# Altium integrated library Panasonic Resistor.IntLib: 95 symbols (part 2 of 2)
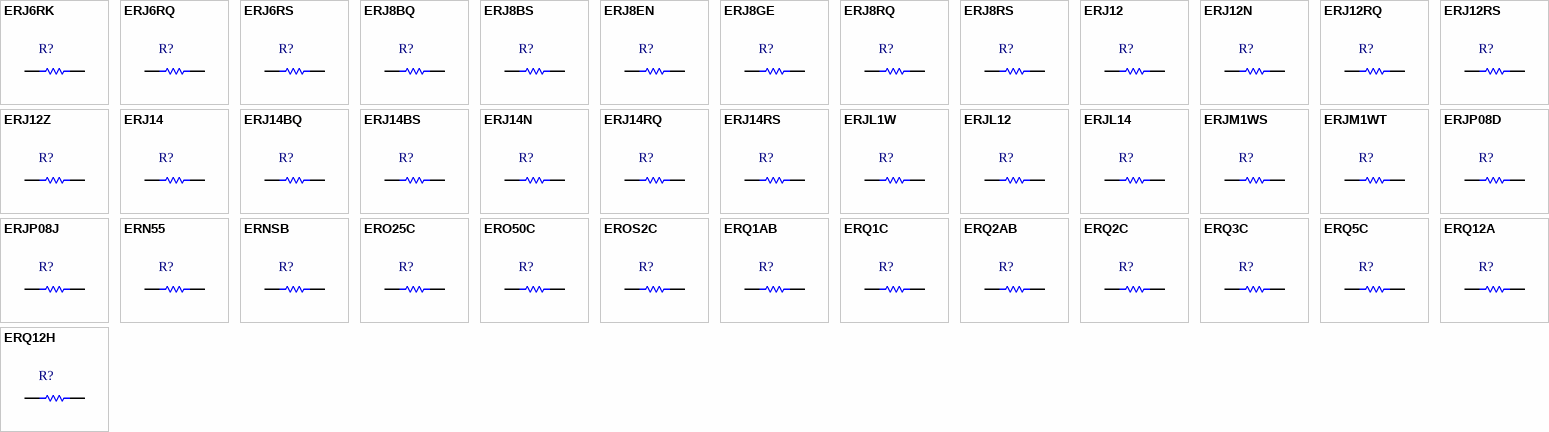
[diagram p3: symbols ERJ6RK to ERQ12H]

## ERN55
designator R?
Precision Metal Film Resistor, 49.9 Ohm to 301k Ohm Range, 0.1% to 1% Tolerance, 0.25 W; Published: 17-Dec-2003; PackageReference: R6.3x2.3; Publisher: Altium Limited; ComponentLink1Description: Manufacturer Link; ComponentLink1URL: http://www.panasonic.com/industrial/components/resistive_products.htm; ComponentLink2Description: Datasheet; ComponentLink2URL: http://www.panasonic.com/industrial/components/pdf/AOA0000CE15.pdf; ComponentLink3Description: Discontinuation Notice; ComponentLink3URL: http://www.panasonic.com/industrial/components/pdf/dc094.pdf
footprint R6.3x2.3 (Resistor, Axial; Body 6.8 x 2.8 mm (LxDia. max), Lead Dia. 0.65 mm (max))
simulation model RESISTOR (Resistor)
signal-integrity model Res
pins: 1, 2

## ERNSB
designator R?
Precision Metal Film Resistor, High Stability, 100 Ohm to 150k Ohm Range, 0.1% to 1% Tolerance, 0.25 W; Published: 17-Dec-2003; PackageReference: R6.3x2.5; Publisher: Altium Limited; ComponentLink1Description: Manufacturer Link; ComponentLink1URL: http://www.panasonic.com/industrial/components/resistive_products.htm; ComponentLink2Description: Datasheet; ComponentLink2URL: http://www.panasonic.com/industrial/components/pdf/AOA0000CE16.pdf; ComponentLink3Description: Discontinuation Notice; ComponentLink3URL: http://www.panasonic.com/industrial/components/pdf/dc094.pdf
footprint R6.3x2.5 (Resistor, Axial; Body 6.8 x 2.7 mm (LxDia. max), Lead Dia. 0.65 mm (max))
simulation model RESISTOR (Resistor)
signal-integrity model Res
pins: 1, 2

## ERO25C
designator R?
Metal Film Resistor, 2 Ohm to 1M Ohm Range, 0.5% and 1% Tolerance, 0.25 W; Published: 17-Dec-2003; PackageReference: R6.3x2.3; Publisher: Altium Limited; ComponentLink1Description: Manufacturer Link; ComponentLink1URL: http://www.panasonic.com/industrial/components/resistive_products.htm; ComponentLink2Description: Discontinuation Notice; ComponentLink2URL: http://www.panasonic.com/industrial/components/pdf/dc050.pdf
footprint R6.3x2.3 (Resistor, Axial; Body 6.8 x 2.8 mm (LxDia. max), Lead Dia. 0.65 mm (max))
simulation model RESISTOR (Resistor)
signal-integrity model Res
pins: 1, 2

## ERO50C
designator R?
Metal Film Resistor, 20 Ohm to 1M Ohm Range, 0.5% and 1% Tolerance, 0.5 W; Published: 17-Dec-2003; PackageReference: R9.5x3.5; Publisher: Altium Limited; ComponentLink1Description: Manufacturer Link; ComponentLink1URL: http://www.panasonic.com/industrial/components/resistive_products.htm; ComponentLink2Description: Datasheet; ComponentLink2URL: http://www.panasonic.com/industrial/components/pdf/AOA0000CE14.pdf; ComponentLink3Description: Discontinuation Notice; ComponentLink3URL: http://www.panasonic.com/industrial/components/pdf/dc050.pdf
footprint R9.5x3.5 (Resistor, Axial; Body 10 x 4 mm (LxDia. max), Lead Dia. 0.65 mm (max))
simulation model RESISTOR (Resistor)
signal-integrity model Res
pins: 1, 2

## EROS2C
designator R?
Metal Film Resistor, 2 Ohm to 1M Ohm Range, 0.5% and 1% Tolerance, 0.25 W; Published: 17-Dec-2003; PackageReference: RO3.2x1.7; Publisher: Altium Limited; ComponentLink1Description: Manufacturer Link; ComponentLink1URL: http://www.panasonic.com/industrial/components/resistive_products.htm; ComponentLink2Description: Datasheet; ComponentLink2URL: http://www.panasonic.com/industrial/components/pdf/AOA0000CE14.pdf; ComponentLink3Description: Discontinuation Notice; ComponentLink3URL: http://www.panasonic.com/industrial/components/pdf/dc050.pdf
footprint RO3.2x1.7 (Resistor, Axial; Body 3.4 x 1.9 mm (LxDia. max), Lead Dia. 0.5 mm (max))
simulation model RESISTOR (Resistor)
signal-integrity model Res
pins: 1, 2

## ERQ1AB
designator R?
Metal Film Fuse Resistor, 1 Ohm to 560 Ohm Range, 5% Tolerance, 1 W; Published: 17-Dec-2003; PackageReference: R12x4; Publisher: Altium Limited; ComponentLink1Description: Manufacturer Link; ComponentLink1URL: http://www.panasonic.com/industrial/components/resistive_products.htm; ComponentLink2Description: Datasheet; ComponentLink2URL: http://www.panasonic.com/industrial/components/pdf/AOB0000CE3.pdf
footprint R12x4 (Resistor, Axial; Body 13.5 x 5 mm (LxDia. max), Lead Dia. 0.85 mm (max))
simulation model RESISTOR (Resistor)
signal-integrity model Res
pins: 1, 2

## ERQ1C
designator R?
Metal (Oxide) Film Fuse Resistor, Axial Leads, 0.33 Ohm to 1k Ohm Range, 5% and 10% Tolerance, 1 W; Published: 17-Dec-2003; PackageReference: R13x5.5; Publisher: Altium Limited; ComponentLink1Description: Manufacturer Link; ComponentLink1URL: http://www.panasonic.com/industrial/components/resistive_products.htm; ComponentLink2Description: Datasheet; ComponentLink2URL: http://www.panasonic.com/industrial/components/pdf/AOB0000CE2.pdf
footprint R13x5.5 (Resistor, Axial; Body 14 x 6.5 x 6.5mm (LxWxH max), Lead Dia. 0.7 mm (max))
simulation model RESISTOR (Resistor)
signal-integrity model Res
pins: 1, 2

## ERQ2AB
designator R?
Metal Film Fuse Resistor, 1 Ohm to 560 Ohm Range, 5% Tolerance, 2 W; Published: 17-Dec-2003; PackageReference: R15x5.5; Publisher: Altium Limited; ComponentLink1Description: Manufacturer Link; ComponentLink1URL: http://www.panasonic.com/industrial/components/resistive_products.htm; ComponentLink2Description: Datasheet; ComponentLink2URL: http://www.panasonic.com/industrial/components/pdf/AOB0000CE3.pdf
footprint R15x5.5 (Resistor, Axial; Body 16.5 x 6.5 mm (LxDia. max), Lead Dia. 0.85 mm (max))
simulation model RESISTOR (Resistor)
signal-integrity model Res
pins: 1, 2

## ERQ2C
designator R?
Metal (Oxide) Film Fuse Resistor, Axial Leads, 0.33 Ohm to 1k Ohm Range, 5% and 10% Tolerance, 2 W; Published: 17-Dec-2003; PackageReference: R18x6.4; Publisher: Altium Limited; ComponentLink1Description: Manufacturer Link; ComponentLink1URL: http://www.panasonic.com/industrial/components/resistive_products.htm; ComponentLink2Description: Datasheet; ComponentLink2URL: http://www.panasonic.com/industrial/components/pdf/AOB0000CE2.pdf
footprint R18x6.4 (Resistor, Axial; Body 19 x 7.4 x 7.4mm (LxWxH max), Lead Dia. 0.85 mm (max))
simulation model RESISTOR (Resistor)
signal-integrity model Res
pins: 1, 2

## ERQ3C
designator R?
Metal (Oxide) Film Fuse Resistor, Axial Leads, 0.33 Ohm to 3.3k Ohm Range, 5% and 10% Tolerance, 3 W; Published: 17-Dec-2003; PackageReference: R22x9.5; Publisher: Altium Limited; ComponentLink1Description: Manufacturer Link; ComponentLink1URL: http://www.panasonic.com/industrial/components/resistive_products.htm; ComponentLink2Description: Datasheet; ComponentLink2URL: http://www.panasonic.com/industrial/components/pdf/AOB0000CE2.pdf
footprint R22x9.5 (Resistor, Axial; Body 23 x 10.5 x 10.5mm (LxWxH max), Lead Dia. 0.85 mm (max))
simulation model RESISTOR (Resistor)
signal-integrity model Res
pins: 1, 2

## ERQ5C
designator R?
Metal (Oxide) Film Fuse Resistor, Axial Leads, 100 Ohm to 3.3k Ohm Range, 5% and 10% Tolerance, 5 W; Published: 17-Dec-2003; PackageReference: R35x9.5; Publisher: Altium Limited; ComponentLink1Description: Manufacturer Link; ComponentLink1URL: http://www.panasonic.com/industrial/components/resistive_products.htm; ComponentLink2Description: Datasheet; ComponentLink2URL: http://www.panasonic.com/industrial/components/pdf/AOB0000CE2.pdf
footprint R35x9.5 (Resistor, Axial; Body 36.5 x 10.5 x 10.5mm (LxWxH max), Lead Dia. 0.85 mm (max))
simulation model RESISTOR (Resistor)
signal-integrity model Res
pins: 1, 2

## ERQ12A
designator R?
Metal Film Fuse Resistor, 1 Ohm to 560 Ohm Range, 5% Tolerance, 0.5 W; Published: 17-Dec-2003; PackageReference: R9x2.8; Publisher: Altium Limited; ComponentLink1Description: Manufacturer Link; ComponentLink1URL: http://www.panasonic.com/industrial/components/resistive_products.htm; ComponentLink2Description: Datasheet; ComponentLink2URL: http://www.panasonic.com/industrial/components/pdf/AOB0000CE3.pdf
footprint R9x2.8 (Resistor, Axial; Body 10.5 x 3.3 mm (LxDia. max), Lead Dia. 0.7 mm (max))
simulation model RESISTOR (Resistor)
signal-integrity model Res
pins: 1, 2

## ERQ12H
designator R?
Metal (Oxide) Film Fuse Resistor, 0.22 Ohm to 3.9k Ohm Range, 5% and 10% Tolerance, 0.5 W; Published: 17-Dec-2003; PackageReference: R12x5.3; Publisher: Altium Limited; ComponentLink1Description: Manufacturer Link; ComponentLink1URL: http://www.panasonic.com/industrial/components/resistive_products.htm; ComponentLink2Description: Datasheet; ComponentLink2URL: http://www.panasonic.com/industrial/components/pdf/AOB0000CE2.pdf
footprint R12x5.3 (Resistor, Axial; Body 13.5 x 6.3 mm (LxDia. max), Lead Dia. 0.7 mm (max))
simulation model RESISTOR (Resistor)
signal-integrity model Res
pins: 1, 2

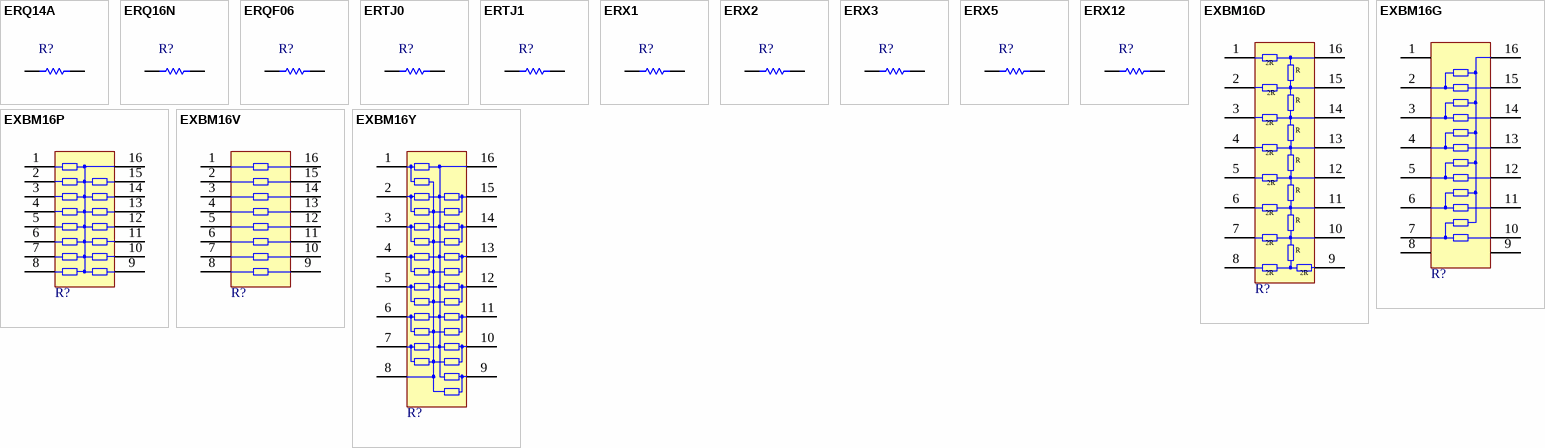
[diagram p2: symbols ERQ14A to EXBM16Y]

## ERQ14A
designator R?
Metal Film Fuse Resistor, 1 Ohm to 470 Ohm Range, 5% Tolerance, 0.25 W; Published: 17-Dec-2003; PackageReference: RQ6.3x2.3; Publisher: Altium Limited; ComponentLink1Description: Manufacturer Link; ComponentLink1URL: http://www.panasonic.com/industrial/components/resistive_products.htm; ComponentLink2Description: Datasheet; ComponentLink2URL: http://www.panasonic.com/industrial/components/pdf/AOB0000CE3.pdf
footprint RQ6.3x2.3 (Resistor, Axial; Body 7.8 x 2.8 mm (LxDia. max), Lead Dia. 0.7 mm (max))
simulation model RESISTOR (Resistor)
signal-integrity model Res
pins: 1, 2

## ERQ16N
designator R?
Low Power Fusible Type Metal Film Fuse Resistor, 0.1 Ohm to 2.2 Ohm Range, 10% Tolerance, 0.166 W; Published: 17-Dec-2003; PackageReference: R7x2.3; Publisher: Altium Limited; ComponentLink1Description: Manufacturer Link; ComponentLink1URL: http://www.panasonic.com/industrial/components/resistive_products.htm; ComponentLink2Description: Datasheet; ComponentLink2URL: http://www.panasonic.com/industrial/components/pdf/AOB0000CE4.pdf
footprint R7x2.3 (Resistor, Axial; Body 8.5 x 3.3 mm (LxDia. max), Lead Dia. 0.7 mm (max))
simulation model RESISTOR (Resistor)
signal-integrity model Res
pins: 1, 2

## ERQF06
designator R?
Flat Chip Fuse Resistor, 0.47 Ohm to 10 Ohm Range, 5% Tolerance, 0805 Size, 0.1 W; Note: If flow soldering, adjust pad width of PCB Footprint to 0.7 - 0.8 times the width of the resistor.; Published: 17-Dec-2003; LatestRevisionDate: 19-Mar-2004; LatestRevisionNote: Silkscreen size reduced.; PackageDocument: Mar-2003; PackageReference: 6-0805; Publisher: Altium Limited; Code_IPC: 2012 [0805]; ComponentLink1Description: Manufacturer Link; ComponentLink1URL: http://www.panasonic.com/industrial/components/resistive_products.htm; ComponentLink2Description: Datasheet; ComponentLink2URL: http://www.panasonic.com/industrial/components/pdf/AOB0000CE1.pdf
footprint 6-0805 (Chip Resistor; Body 2 x 1.2 mm (LxW typ))
simulation model RESISTOR (Resistor)
signal-integrity model Res
pins: 1, 2

## ERTJ0
designator R?
Multilayer Chip NTC Thermistor, 22 Ohm to 150k Ohm Range, 1% to 10% Tolerance, 0402 Type; Published: 17-Dec-2003; LatestRevisionDate: 19-Mar-2004; LatestRevisionNote: Silkscreen size reduced.; PackageDocument: Mar-2003; PackageReference: J0-0402; Publisher: Altium Limited; Code_JEITA: J0; Code_IPC: 1005 [0402]; ComponentLink1Description: Manufacturer Link; ComponentLink1URL: http://www.panasonic.com/industrial/components/resistive_products.htm; ComponentLink2Description: Datasheet; ComponentLink2URL: http://www.panasonic.com/industrial/components/pdf/ARG0000CE1.pdf
footprint J0-0402 (Chip Resistor; Body 1 x 0.5 mm (LxW typ))
simulation model RESISTOR (Resistor)
signal-integrity model Res
pins: 1, 2

## ERTJ1
designator R?
Multilayer Chip NTC Thermistor, 22 Ohm to 150k Ohm Range, 1% to 10% Tolerance, 0603 Type; Published: 17-Dec-2003; LatestRevisionDate: 19-Mar-2004; LatestRevisionNote: Silkscreen size reduced.; PackageDocument: Mar-2003; PackageReference: J1-0603; Publisher: Altium Limited; Code_JEITA: J1; Code_IPC: 1608 [0603]; ComponentLink1Description: Manufacturer Link; ComponentLink1URL: http://www.panasonic.com/industrial/components/resistive_products.htm; ComponentLink2Description: Datasheet; ComponentLink2URL: http://www.panasonic.com/industrial/components/pdf/ARG0000CE1.pdf
footprint J1-0603 (Chip Resistor; Body 1.6 x 0.8 mm (LxW typ))
simulation model RESISTOR (Resistor)
signal-integrity model Res
pins: 1, 2

## ERX1
designator R?
Metal Film Resistor, 0.1 Ohm to 100k Ohm Range, 2% and 5% Tolerance, 1 W; Published: 17-Dec-2003; PackageReference: R9x2.8; Publisher: Altium Limited; ComponentLink1Description: Manufacturer Link; ComponentLink1URL: http://www.panasonic.com/industrial/components/resistive_products.htm; ComponentLink2Description: Datasheet; ComponentLink2URL: http://www.panasonic.com/industrial/components/pdf/AOA0000CE18.pdf
footprint R9x2.8 (Resistor, Axial; Body 10.5 x 3.3 mm (LxDia. max), Lead Dia. 0.7 mm (max))
simulation model RESISTOR (Resistor)
signal-integrity model Res
pins: 1, 2

## ERX2
designator R?
Metal Film Resistor, 0.1 Ohm to 100k Ohm Range, 2% and 5% Tolerance, 2 W; Published: 17-Dec-2003; PackageReference: R12x4; Publisher: Altium Limited; ComponentLink1Description: Manufacturer Link; ComponentLink1URL: http://www.panasonic.com/industrial/components/resistive_products.htm; ComponentLink2Description: Datasheet; ComponentLink2URL: http://www.panasonic.com/industrial/components/pdf/AOA0000CE18.pdf
footprint R12x4 (Resistor, Axial; Body 13.5 x 5 mm (LxDia. max), Lead Dia. 0.85 mm (max))
simulation model RESISTOR (Resistor)
signal-integrity model Res
pins: 1, 2

## ERX3
designator R?
Metal Film Resistor, 0.1 Ohm to 100k Ohm Range, 2% and 5% Tolerance, 3 W; Published: 17-Dec-2003; PackageReference: R15x5.5; Publisher: Altium Limited; ComponentLink1Description: Manufacturer Link; ComponentLink1URL: http://www.panasonic.com/industrial/components/resistive_products.htm; ComponentLink2Description: Datasheet; ComponentLink2URL: http://www.panasonic.com/industrial/components/pdf/AOA0000CE18.pdf
footprint R15x5.5 (Resistor, Axial; Body 16.5 x 6.5 mm (LxDia. max), Lead Dia. 0.85 mm (max))
simulation model RESISTOR (Resistor)
signal-integrity model Res
pins: 1, 2

## ERX5
designator R?
Metal Film Resistor, 1 Ohm to 100k Ohm Range, 2% and 5% Tolerance, 5 W; Published: 17-Dec-2003; PackageReference: R24x8; Publisher: Altium Limited; ComponentLink1Description: Manufacturer Link; ComponentLink1URL: http://www.panasonic.com/industrial/components/resistive_products.htm; ComponentLink2Description: Datasheet; ComponentLink2URL: http://www.panasonic.com/industrial/components/pdf/AOA0000CE18.pdf
footprint R24x8 (Resistor, Axial; Body 25.5 x 9 mm (LxDia. max), Lead Dia. 0.85 mm (max))
simulation model RESISTOR (Resistor)
signal-integrity model Res
pins: 1, 2

## ERX12
designator R?
Metal Film Resistor, 0.11 Ohm to 47k Ohm Range, 2% and 5% Tolerance, 0.5 W; Published: 17-Dec-2003; PackageReference: R6.35x2.3; Publisher: Altium Limited; ComponentLink1Description: Manufacturer Link; ComponentLink1URL: http://www.panasonic.com/industrial/components/resistive_products.htm; ComponentLink2Description: Datasheet; ComponentLink2URL: http://www.panasonic.com/industrial/components/pdf/AOA0000CE18.pdf
footprint R6.35x2.3 (Resistor, Axial; Body 7 x 2.8 mm (LxDia. max), Lead Dia. 0.7 mm (max))
simulation model RESISTOR (Resistor)
signal-integrity model Res
pins: 1, 2

## EXBM16D
designator R?
Mini-Flat Package, Ladder Resistor Network, 1% to 5% Tolerance, 0.5 W/resistor; Sim Note: Enter the Resistance value into parameter field.; Published: 17-Dec-2003; PackageDocument: Mar-2003; PackageReference: SO-16; Publisher: Altium Limited; ComponentLink1Description: Manufacturer Link; ComponentLink1URL: http://www.panasonic.com/industrial/components/resistive_products.htm
footprint SO-16 (Small Outline; 16 Leads; Body Width 5.6 mm; Pitch 1.27 mm)
simulation model EXBM16D (SUBCKT)
pins: 1 MSB, 2, 3, 4, 5, 6, 7, 8 LSB, 9 GND, 10, 11, 12, 13, 14, 15, 16 OUT
text: 2R; R

## EXBM16G
designator R?
Mini-Flat Package, Divider Resistor Network, 1% to 5% Tolerance, 0.042 W/resistor; Sim Note: Enter the Resistance value into parameter field.; Published: 17-Dec-2003; PackageDocument: Mar-2003; PackageReference: SO-16; Publisher: Altium Limited; ComponentLink1Description: Manufacturer Link; ComponentLink1URL: http://www.panasonic.com/industrial/components/resistive_products.htm
footprint SO-16 (Small Outline; 16 Leads; Body Width 5.6 mm; Pitch 1.27 mm)
simulation model EXBM16G (SUBCKT)
pins: 1, 2, 3, 4, 5, 6, 7, 8, 9, 10, 11, 12, 13, 14, 15, 16

## EXBM16P
designator R?
Mini-Flat Package, Common terminal Resistor Network, 1% to 5% Tolerance, 0.031 W/resistor; Sim Note: Enter the Resistance value into parameter field.; Published: 17-Dec-2003; PackageDocument: Mar-2003; PackageReference: SO-16; Publisher: Altium Limited; ComponentLink1Description: Manufacturer Link; ComponentLink1URL: http://www.panasonic.com/industrial/components/resistive_products.htm
footprint SO-16 (Small Outline; 16 Leads; Body Width 5.6 mm; Pitch 1.27 mm)
simulation model EXBM16P (SUBCKT)
pins: 1, 2, 3, 4, 5, 6, 7, 8, 9, 10, 11, 12, 13, 14, 15, 16

## EXBM16V
designator R?
Mini-Flat Package, Isolated Resistor Network, 1% to 5% Tolerance, 0.063 W/resistor; Sim Note: Enter the Resistance value into parameter field.; Published: 17-Dec-2003; PackageDocument: Mar-2003; PackageReference: SO-16; Publisher: Altium Limited; ComponentLink1Description: Manufacturer Link; ComponentLink1URL: http://www.panasonic.com/industrial/components/resistive_products.htm
footprint SO-16 (Small Outline; 16 Leads; Body Width 5.6 mm; Pitch 1.27 mm)
simulation model respack_8 (SUBCKT)
pins: 1, 2, 3, 4, 5, 6, 7, 8, 9, 10, 11, 12, 13, 14, 15, 16

## EXBM16Y
designator R?
Mini-Flat Package, Terminator Resistor Network, 1% to 5% Tolerance, 0.031 W/resistor; Sim Note: Enter the Resistance value into parameter field.; Published: 17-Dec-2003; PackageDocument: Mar-2003; PackageReference: SO-16; Publisher: Altium Limited; ComponentLink1Description: Manufacturer Link; ComponentLink1URL: http://www.panasonic.com/industrial/components/resistive_products.htm
footprint SO-16 (Small Outline; 16 Leads; Body Width 5.6 mm; Pitch 1.27 mm)
simulation model EXBM16Y (SUBCKT)
pins: 1, 2, 3, 4, 5, 6, 7, 8, 9, 10, 11, 12, 13, 14, 15, 16